# EAGLE library part FI-X30SSLA-HF (library SchlegelAr_Master)
JAE Electronics FI-X30SSLA-HF - FFC & FPC-Steckverbinder CONN FPC RCP 30POS 1MM SLDR RA SMD last modified: Armin Schlegel, 28.04.2014 http://de.mouser.com/ProductDetail/JAE-Electronics/FI-X30SSLA-HF/?qs=%2fha2pyFaduioZsvOJCeWcg109ZmKz2%2fupnzggFRdCcW4jqYF4CRRJw%3d%3d http://jae-connector.com/en/pdf_download_exec.cfm?param=SJ110033.pdf
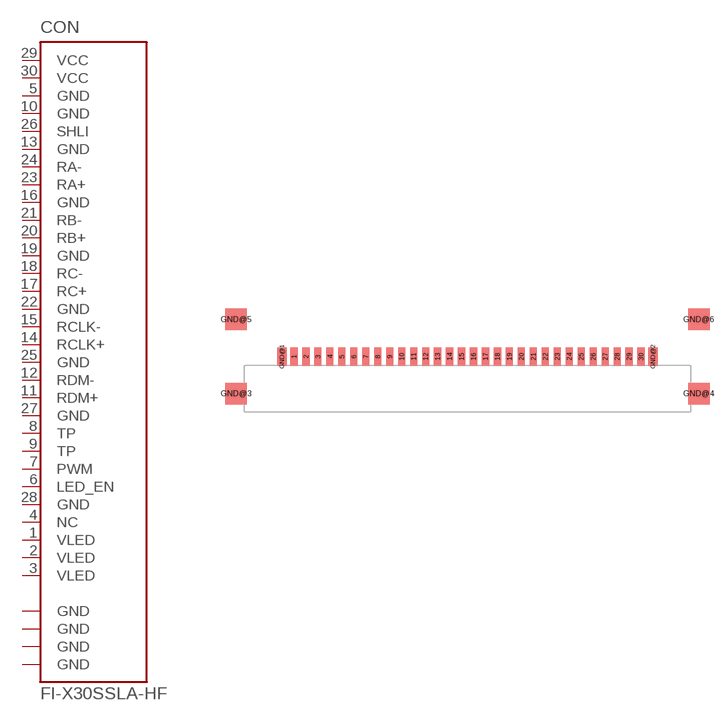
[diagram p0: symbol with the pads of FI-X30SSLA-HF; footprint FI-X30SSLA-HF]

Designator prefix CON

## FI-X30SSLA-HF  [FI-X30SSLA-HF]
1  VLED
2  VLED
3  VLED
4  NC
5  GND
6  LED_EN
7  PWM
8  TP
9  TP
10  GND
11  RDM+
12  RDM-
13  GND
14  RCLK+
15  RCLK-
16  GND
17  RC+
18  RC-
19  GND
20  RB+
21  RB-
22  GND
23  RA+
24  RA-
25  GND
26  SHLI
27  GND
28  GND
29  VCC
30  VCC
GND@1  GND  pwr
GND@2  GND  pwr
GND@3  GND  pwr
GND@4  GND  pwr

## Footprint FI-X30SSLA-HF (pad centres in mm)
smd 0.6 x 1.5: 1 -14.5,2.65; 2 -13.5,2.65; 3 -12.5,2.65; 4 -11.5,2.65; 5 -10.5,2.65; 6 -9.5,2.65; 7 -8.5,2.65; 8 -7.5,2.65; 9 -6.5,2.65; 10 -5.5,2.65; 11 -4.5,2.65; 12 -3.5,2.65; 13 -2.5,2.65; 14 -1.5,2.65; 15 -0.5,2.65; 16 0.5,2.65; 17 1.5,2.65; 18 2.5,2.65; 19 3.5,2.65; 20 4.5,2.65; 21 5.5,2.65; 22 6.5,2.65; 23 7.5,2.65; 24 8.5,2.65; 25 9.5,2.65; 26 10.5,2.65; 27 11.5,2.65; 28 12.5,2.65; 29 13.5,2.65; 30 14.5,2.65
smd 0.8 x 1.5: GND@1 -15.5,2.65; GND@2 15.5,2.65
smd 1.8 x 1.8: GND@3 -19.325,-0.45; GND@4 19.325,-0.45; GND@5 -19.325,5.75; GND@6 19.325,5.75